# Altium schematic symbol library Res_Yageo_RC0805FR-078K06L_eec.SchLib: 1 symbol
Pins are listed as number, name and electrical type; pins without a type are passive.

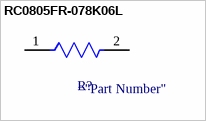
[diagram p0: symbol RC0805FR-078K06L]

## RC0805FR-078K06L
designator R?  (value not drawn)
pins: 1, 2